# EAGLE library part MICRO_TOGGLE_DPDT (library 000_nl2)
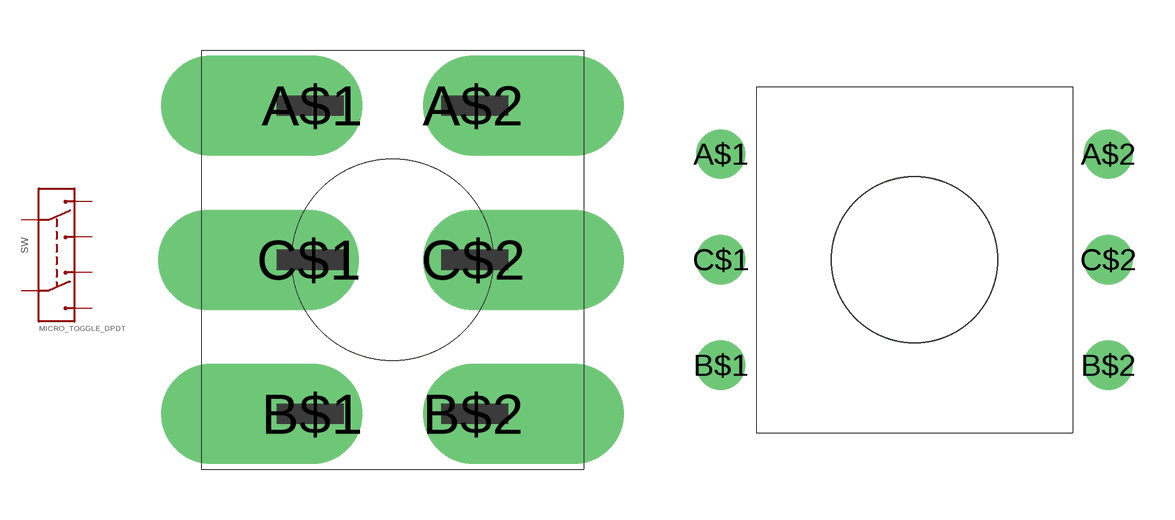
[diagram p15: symbol with the pads of MICRO_TOGGLE_DPDT; footprints MICRO_TOGGLE_DPDT, MICRO_TOGGLE_DPDT_JUST_HOLE]

Designator prefix SW

## MICRO_TOGGLE_DPDT_MICRO_TOP  [MICRO_TOGGLE_DPDT]
A$1  A$1  pas
A$2  A$2  pas
B$1  B$1  pas
B$2  B$2  pas
C$1  C$1  pas
C$2  C$2  pas

## MICRO_TOGGLE_DPDT_MICRO_BOTTOM  [MICRO_TOGGLE_DPDT_JUST_HOLE]
Pads as for MICRO_TOGGLE_DPDT

## MICRO_TOGGLE_DPDT_STD_BOTTOM  [TOGGLE_DPDT_BOTTOM]
Pads as for MICRO_TOGGLE_DPDT

## Footprint MICRO_TOGGLE_DPDT (pad centres in mm)
drill 1.2 pad 3 offset: A$1 -2.4,4.6; A$2 2.4,4.6; B$1 -2.4,-4.6; B$2 2.4,-4.6; C$1 -2.5,0; C$2 2.4,0

## Footprint MICRO_TOGGLE_DPDT_JUST_HOLE (pad centres in mm)
drill 0.8 pad 1.778: A$1 -6.985,3.81; A$2 6.985,3.81; B$1 -6.985,-3.81; B$2 6.985,-3.81; C$1 -6.985,0; C$2 6.985,0
hole 6 at 0,0

## Footprint TOGGLE_DPDT_BOTTOM (pad centres in mm)
drill 0.8 pad 1.778: A$1 -11.43,15.24; A$2 11.43,15.24; B$1 -11.43,-15.399; B$2 11.271,-15.24; C$1 -11.43,0; C$2 11.43,0
hole 12 at 0,0